# Altium schematic symbol library MainBoard.SCHLIB: 19 symbols
Pins are listed as number, name and electrical type; pins without a type are passive.

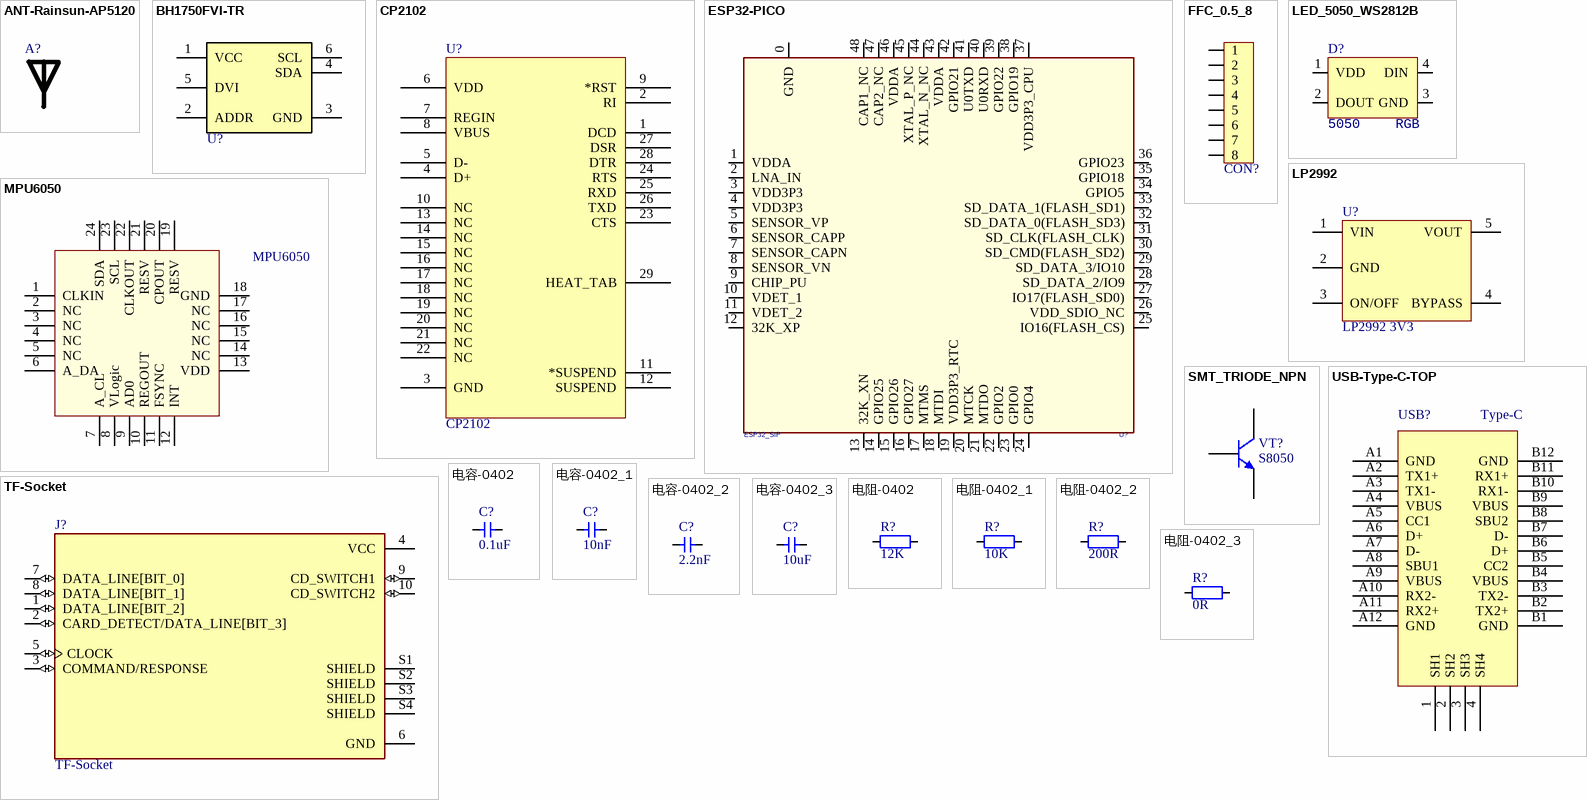
[diagram p0: symbols ANT-Rainsun-AP5120 to 电阻-0402_3]

## ANT-Rainsun-AP5120
designator A?, comment RAINSUN  (value not drawn)
footprint ANT-Rainsun-AN5120 (选择焊盘)
pins: 1

## BH1750FVI-TR
designator U?  (value not drawn)
footprint BH1750FVI
pins: 1 VCC, 2 ADDR, 3 GND, 4 SDA, 5 DVI, 6 SCL

## CP2102
designator U?
USB转TTL; PART DESC: SINGLE-CHIP USB TO UART BRIDGE, QFN28, RoHS.; MFG #1: SILICON LABS; PART NUMBER: CP2102; Value: Value; RefDes: RefDes; Type: DEV
footprint QFN-28
pins: 1 DCD, 2 RI, 3 GND, 4 D+, 5 D-, 6 VDD, 7 REGIN, 8 VBUS, 9 *RST, 10 NC, 11 *SUSPEND, 12 SUSPEND, 13 NC, 14 NC, 15 NC, 16 NC, 17 NC, 18 NC, 19 NC, 20 NC, 21 NC, 22 NC, 23 CTS, 24 RTS, 25 RXD, 26 TXD, 27 DSR, 28 DTR, 29 HEAT_TAB

## ESP32-PICO
designator U?, comment ESP32_SIP
footprint QFN-48_7X7
pins: 0 GND (power), 1 VDDA (power), 2 LNA_IN, 3 VDD3P3 (power), 4 VDD3P3 (power), 5 SENSOR_VP, 6 SENSOR_CAPP, 7 SENSOR_CAPN, 8 SENSOR_VN, 9 CHIP_PU, 10 VDET_1, 11 VDET_2, 12 32K_XP, 13 32K_XN, 14 GPIO25, 15 GPIO26, 16 GPIO27, 17 MTMS, 18 MTDI, 19 VDD3P3_RTC (power), 20 MTCK, 21 MTDO, 22 GPIO2, 23 GPIO0, 24 GPIO4, 25 IO16(FLASH_CS), 26 VDD_SDIO_NC, 27 IO17(FLASH_SD0), 28 SD_DATA_2/IO9, 29 SD_DATA_3/IO10, 30 SD_CMD(FLASH_SD2), 31 SD_CLK(FLASH_CLK), 32 SD_DATA_0(FLASH_SD3), 33 SD_DATA_1(FLASH_SD1), 34 GPIO5, 35 GPIO18, 36 GPIO23, 37 VDD3P3_CPU (power), 38 GPIO19, 39 GPIO22, 40 U0RXD (power), 41 U0TXD (power), 42 GPIO21, 43 VDDA (power), 44 XTAL_N_NC, 45 XTAL_P_NC, 46 VDDA (power), 47 CAP2_NC, 48 CAP1_NC

## FFC_0.5_8
designator CON?  (value not drawn)
FFC; System: Connector
footprint FFC_0.5_8
pins: 1, 2, 3, 4, 5, 6, 7, 8

## LED_5050_WS2812B
designator D?, comment Type: 5050  (hidden comment: RGB)
LED; Value: RGB
footprint LED_5050_WS2812B
pins: 1 VDD, 2 DOUT, 3 GND, 4 DIN

## LP2992
designator U?, comment LP2992 3V3
LDO
footprint SOT23-5 (SOT23, 3-Leads, Body 3.1x3.0mm (max), Pitch 0.95mm, IPC Medium Density)
pins: 1 VIN, 2 GND, 3 ON/OFF, 4 BYPASS, 5 VOUT

## MPU6050
designator U?
六轴传感器
footprint QFN-24 (QFN, 24-Leads, Body 4.1x4.1mm (max), Pitch 0.50mm, IPC Low Density)
pins: 1 CLKIN, 2 NC, 3 NC, 4 NC, 5 NC, 6 A_DA, 7 A_CL, 8 VLogic, 9 AD0, 10 REGOUT, 11 FSYNC, 12 INT, 13 VDD, 14 NC, 15 NC, 16 NC, 17 NC, 18 GND, 19 RESV, 20 CPOUT, 21 RESV, 22 CLKOUT, 23 SCL, 24 SDA

## SMT_TRIODE_NPN
designator VT?, comment S8050
Surface mount NPN transistor, package SOT-23
footprint SMT_TRIODE_NPN (Surface mount NPN transistor, package SOT-23)
pins: 1 B, 2 E, 3 C

## TF-Socket
designator J?
10 _8 + 2_ Position Card Connector Secure Digital - microSDâ„¢ Surface Mount, Right Angle Gold; MP: 1140084168; MF: Amphenol Commercial Products; SnapEDA_Link: https://www.snapeda.com/parts/1140084168/Amphenol/view-part/4544529/?ref=snap; Availability: Unavailable; Price: None; Value: *; Package: None
footprint TF-Card-Amphenol with TF
pins: 1 DATA_LINE[BIT_2] (io), 2 CARD_DETECT/DATA_LINE[BIT_3] (io), 3 COMMAND/RESPONSE (io), 4 VCC (power), 5 CLOCK (io), 6 GND (power), 7 DATA_LINE[BIT_0] (io), 8 DATA_LINE[BIT_1] (io), 9 CD_SWITCH1 (io), 10 CD_SWITCH2 (io), S1 SHIELD, S2 SHIELD, S3 SHIELD, S4 SHIELD

## USB-Type-C-TOP
designator USB?, comment Type-C
footprint Type-C-TOP
pins: 1 SH1, 2 SH2, 3 SH3, 4 SH4, A1 GND, A2 TX1+, A3 TX1-, A4 VBUS, A5 CC1, A6 D+, A7 D-, A8 SBU1, A9 VBUS, A10 RX2-, A11 RX2+, A12 GND, B1 GND, B2 TX2+, B3 TX2-, B4 VBUS, B5 CC2, B6 D+, B7 D-, B8 SBU2, B9 VBUS, B10 RX1-, B11 RX1+, B12 GND

## 电容-0402
designator C?, comment 0.1uF
Capacitor; Value: 0.1u
footprint CAP_0402
pins: 1, 2

## 电容-0402_1
designator C?, comment 10nF
Capacitor; Value: 10n
footprint CAP_0402
pins: 1, 2

## 电容-0402_2
designator C?, comment 2.2nF
Capacitor; Value: 2.2n
footprint CAP_0402
pins: 1, 2

## 电容-0402_3
designator C?, comment 10uF
Capacitor; Value: 10u
footprint CAP_0402
pins: 1, 2

## 电阻-0402
designator R?, comment 12K
Resistor; Value: 12k
footprint RES_0402
pins: 1, 2

## 电阻-0402_1
designator R?, comment 10K
Resistor; Value: 10k
footprint RES_0402
pins: 1, 2

## 电阻-0402_2
designator R?, comment 200R
Resistor; Value: 200
footprint RES_0402
pins: 1, 2

## 电阻-0402_3
designator R?, comment 0R
Resistor; Value: 22R
footprint RES_0402
pins: 1, 2